# Altium footprint library LM358.PcbLib: 1 footprints
Each footprint in its own frame and in the unit in brackets; x right, y up, seen from the top. Pads: shape width x height; smd on the part's side, far side on the other; paste and mask are expansions set on the pad; w line width, h text height; cw(c..) or ccw(c..) is an arc to the next point about the centre after c.
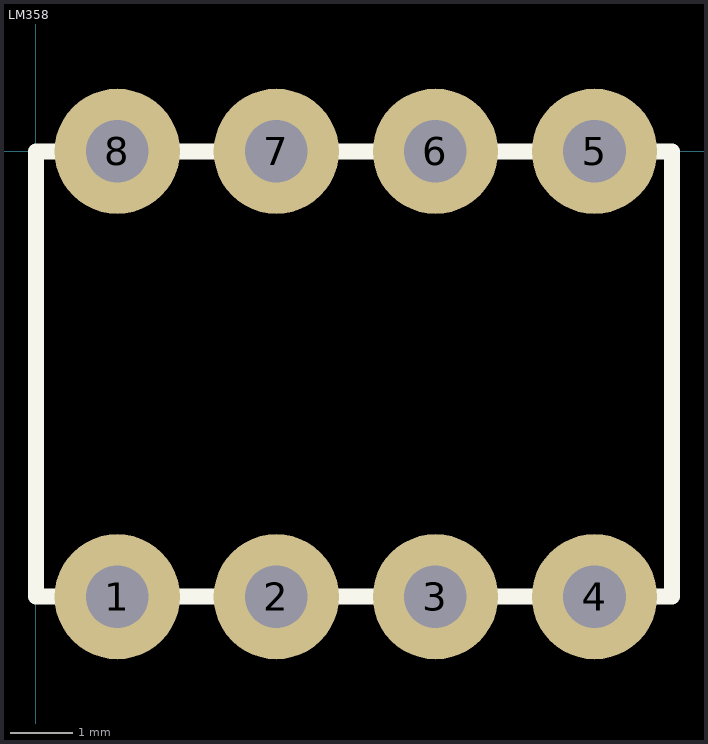
[diagram p0: the footprint, top view; thin cyan lines are the x and y axes]

## LM358 [mm] "LM358"
pads (8):
  round 2 hole 1: 1(1.3,-7.11) 2(3.84,-7.11) 3(6.38,-7.11) 4(8.92,-7.11) 5(8.92,0) 6(6.38,0) 7(3.84,0) 8(1.3,0)
Top Overlay:
  lines w0.254: 0,-7.11 10.16,-7.11 10.16,0 0,0 0,-7.11